# EAGLE library part MAX9715 (library m_audio)
The MAX9715 high-efficiency, stereo, Class D audio power amplifier provides up to 2.8W per channel into a 4Ω speaker with a 5V supply. Maxim’s second-generation Class D technology features robust output protection, high efficiency, and high power-supply rejection (PSRR) while eliminating the need for output filters. Selectable gain settings, +10.5dB or +9.0dB, adjust the amplifier gain to suit the audio input level and speaker load. The MAX9715 features high PSRR (71dB at 1kHz), allowing for operation from noisy supplies without additional regulation. Comprehensive click-and-pop suppression eliminates audible clicks and pops at startup and shutdown. The MAX9715 operates from a single 5V supply and consumes only 12mA of supply current. Integrated shutdown control reduces supply current to less than 100nA.
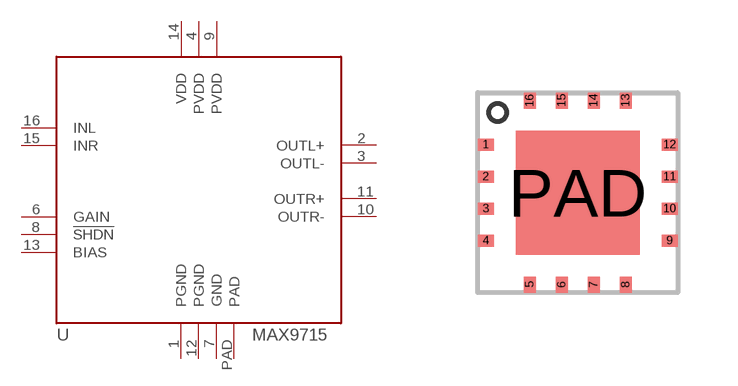
[diagram p2: symbol with the pads of T1655-2; footprint T1655-2]

Designator prefix U

## MAX9715TQFN (MANUF: Maxim; PARTNUM: MAX9715ETE+)  [T1655-2]
1  PGND
2  OUTL+
3  OUTL-
4  PVDD
6  GAIN
7  GND
8  !SHDN
9  PVDD
10  OUTR-
11  OUTR+
12  PGND
13  BIAS
14  VDD
15  INR
16  INL
PAD  PAD

## Footprint T1655-2 (pad centres in mm)
smd 0.4 x 0.3: 1 -2.3,1.2; 2 -2.3,0.4; 3 -2.3,-0.4; 4 -2.3,-1.2; 9 2.3,-1.2; 10 2.3,-0.4; 11 2.3,0.4; 12 2.3,1.2
smd 0.3 x 0.4: 5 -1.2,-2.3; 6 -0.4,-2.3; 7 0.4,-2.3; 8 1.2,-2.3; 13 1.2,2.3; 14 0.4,2.3; 15 -0.4,2.3; 16 -1.2,2.3
smd 3.1 x 3.1: PAD 0,0